# EAGLE library part MAX1595EUA33+ (library maximparts)
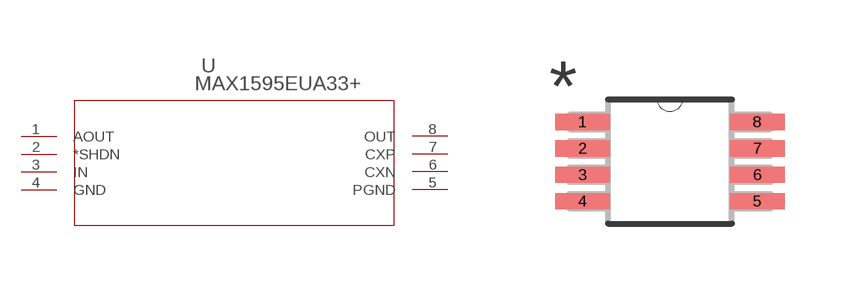
[diagram p1: symbol with the pads of 21-0036K; footprint 21-0036K]

Designator prefix U

## MAX1595EUA33+ (MANUFACTURER_NAME: Maxim; MANUFACTURER_PART_NUMBER: MAX1595EUA33+; VENDOR: Maxim)  [21-0036K]
1  AOUT  out
2  *SHDN  pas
3  IN  in
4  GND  pwr
5  PGND  pwr
6  CXN  pas
7  CXP  pas
8  OUT  out

## Footprint 21-0036K (pad centres in mm)
smd 1.372 x 0.406: 1 -2.184,0.991; 2 -2.184,0.33; 3 -2.184,-0.33; 4 -2.184,-0.991; 5 2.184,-0.991; 6 2.184,-0.33; 7 2.184,0.33; 8 2.184,0.991